# Altium footprint library 3-644457-2.PcbLib: 1 footprints
Each footprint in its own frame and in the unit in brackets; x right, y up, seen from the top. Pads: shape width x height; smd on the part's side, far side on the other; paste and mask are expansions set on the pad; w line width, h text height; cw(c..) or ccw(c..) is an arc to the next point about the centre after c.
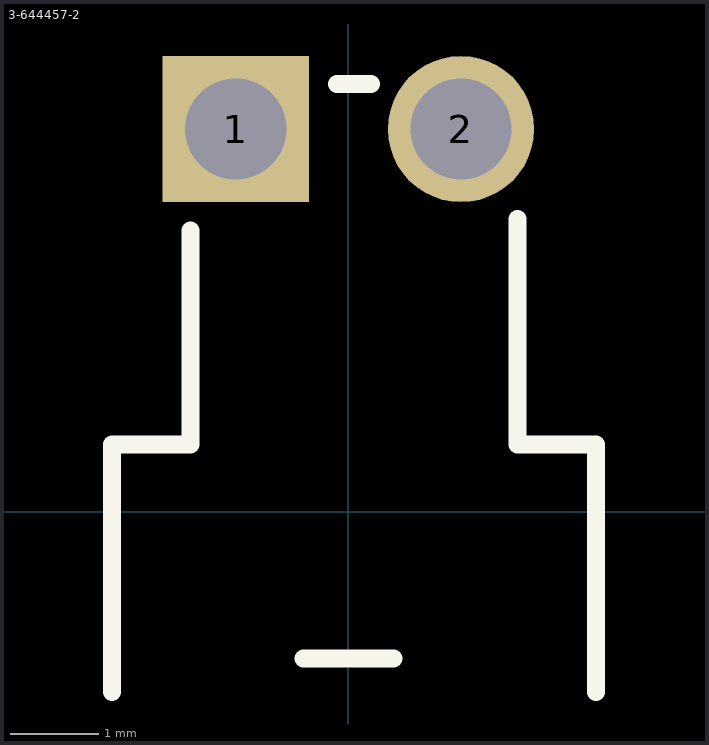
[diagram p0: the footprint, top view; thin cyan lines are the x and y axes]

## 3-644457-2 [mil]
pads (2):
  rect 65x65 hole 45: 1(-50,170)
  round 65 hole 45: 2(50,170)
Top Overlay:
  lines w8: -105,-80 -105,30 -70,30 -70,125 ; -20,-65 20,-65 ; -5,190 10,190 ; 75,130 75,30 110,30 110,-80
3D body: height 100, standoff -109.25, extent -94,-190 100,180